# EAGLE library part 3DROBOTICS_HM-TRP (library tera-boards)
HM-TRP Series 100mW Transceiver module HM-TRP series is a low cost, high performance transparent FSK transceiver with operating at 433/470/868/915 MHz. It features small size, high output power, high sensitivity, long transmission distance and high communication data rate with auto set up for communication change and data receiving and transmission control. There is UART interface, it is easy to realize the wireless data transmission with only providing the UART data. It is flexible for the users to set the UART baud rate, frequency, output power, data rate, frequency deviation, receiving bandwidth etc parameters. It is your ideal choice for designing wireless data transmission products which can be widely used on wireless data transmission field.
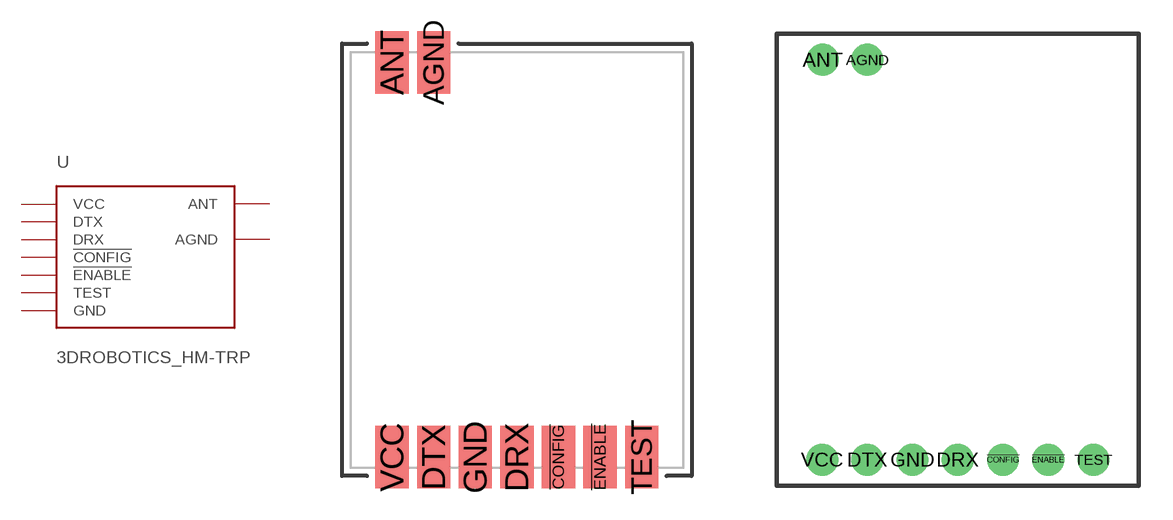
[diagram p2: symbol with the pads of 3DROBOTICS_HM-TRP-SMD; footprints 3DROBOTICS_HM-TRP-SMD, 3DROBOTICS_HM-TRP-THROUGH-HOLE]

Designator prefix U

## 3DROBOTICS_HM-TRPSMD  [3DROBOTICS_HM-TRP-SMD]
!CONFIG  !CONFIG  in
!ENABLE  !ENABLE  in
AGND  AGND  pwr
ANT  ANT
DRX  DRX  in
DTX  DTX  out
GND  GND  sup
TEST  TEST  nc
VCC  VCC  sup

## 3DROBOTICS_HM-TRPTHROUGH_HOLE (DATASHEET: http://www.hoperf.com/upload/rf_app/HM-TRP.pdf; LINK: http://www.hoperf.com/rf_fsk/app/hm-trp.htm; MFGPN: See datasheet for, part number depends on operation band.)  [3DROBOTICS_HM-TRP-THROUGH-HOLE]
Pads as for 3DROBOTICS_HM-TRP-SMD

## Footprint 3DROBOTICS_HM-TRP-SMD (pad centres in mm)
smd 1.6 x 3: !CONFIG 2,-9.5; !ENABLE 4,-9.5; AGND -4,9.5; ANT -6,9.5; DRX 0,-9.5; DTX -4,-9.5; GND -2,-9.5; TEST 6,-9.5; VCC -6,-9.5

## Footprint 3DROBOTICS_HM-TRP-THROUGH-HOLE (pad centres in mm)
drill 0.9: !CONFIG 2,-8.85; !ENABLE 4,-8.85; AGND -4,8.85; ANT -5.97,8.85; DRX 0,-8.85; DTX -4,-8.85; GND -2,-8.85; TEST 6,-8.85; VCC -6,-8.85